# EAGLE library part JST-20P3.0-JMCS (library FaBo-Parts)
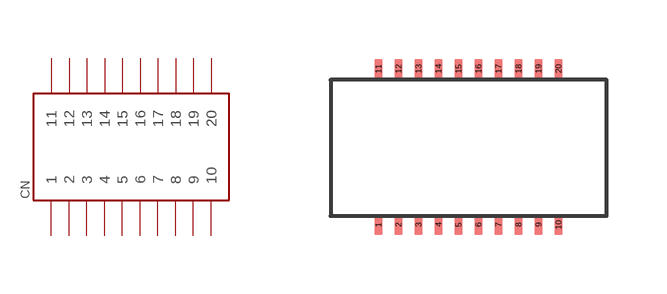
[diagram p0: symbol with the pads of JST-20P3.0-JMCS; footprint JST-20P3.0-JMCS]

Designator prefix CN

## JST-20P3.0-JMCS  [JST-20P3.0-JMCS]
1  10
2  9
3  8
4  7
5  6
6  5
7  4
8  3
9  2
10  1
11  20
12  19
13  18
14  17
15  16
16  15
17  14
18  13
19  12
20  11

## Footprint JST-20P3.0-JMCS (pad centres in mm)
smd 0.2 x 0.5: 1 -2.252,-1.924; 2 -1.752,-1.924; 3 -1.252,-1.924; 4 -0.752,-1.924; 5 -0.252,-1.924; 6 0.248,-1.924; 7 0.748,-1.924; 8 1.248,-1.924; 9 1.748,-1.924; 10 2.248,-1.924; 11 -2.252,1.976; 12 -1.752,1.976; 13 -1.252,1.976; 14 -0.752,1.976; 15 -0.252,1.976; 16 0.248,1.976; 17 0.748,1.976; 18 1.248,1.976; 19 1.748,1.976; 20 2.248,1.976